# EAGLE library part TXS0104EPWR (library RoverWing-V1.5)
Bidirectional Voltage Level Translator, 4 Channel
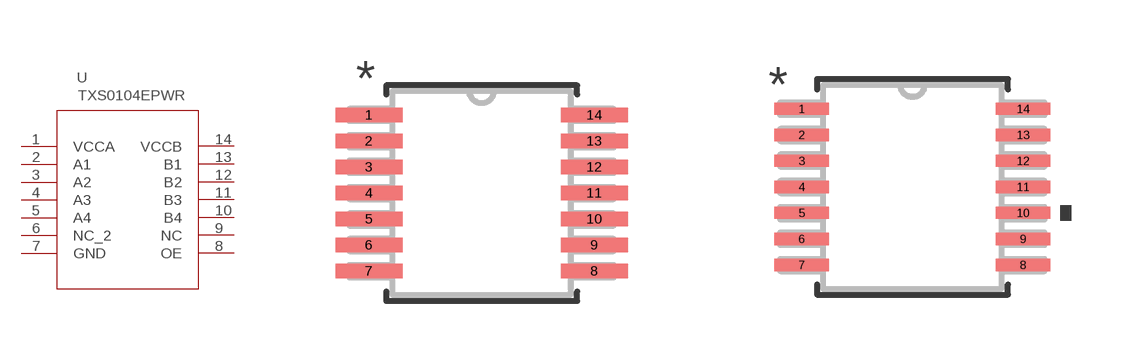
[diagram p10: symbol with the pads of PW14; footprints PW14, PW14-L]

Designator prefix U

## TXS0104EPWR (MANUFACTURER: Texas Instruments; PARTNO: TXS0104EPWR)  [PW14]
1  VCCA  pwr
2  A1
3  A2
4  A3
5  A4
6  NC_2  nc
7  GND  pwr
8  OE  out
9  NC  nc
10  B4
11  B3
12  B2
13  B1
14  VCCB  pwr

## TXS0104EPWRPW14-L (MANUFACTURER_PART_NUMBER: TXS0104EPWR; VENDOR: Texas Instruments)  [PW14-L]
Pads as for PW14

## TXS0104EPWRPW14-M (MANUFACTURER_PART_NUMBER: TXS0104EPWR; VENDOR: Texas Instruments)  [PW14-M]
Pads as for PW14

## Footprint PW14 (pad centres in mm)
smd 1.676 x 0.356: 1 -2.819,1.95; 2 -2.819,1.3; 3 -2.819,0.65; 4 -2.819,0; 5 -2.819,-0.65; 6 -2.819,-1.3; 7 -2.819,-1.95; 8 2.819,-1.95; 9 2.819,-1.3; 10 2.819,-0.65; 11 2.819,0; 12 2.819,0.65; 13 2.819,1.3; 14 2.819,1.95

## Footprint PW14-L (pad centres in mm)
smd 1.372 x 0.305: 1 -2.769,1.95; 2 -2.769,1.3; 3 -2.769,0.65; 4 -2.769,0; 5 -2.769,-0.65; 6 -2.769,-1.3; 7 -2.769,-1.95; 8 2.769,-1.95; 9 2.769,-1.3; 10 2.769,-0.65; 11 2.769,0; 12 2.769,0.65; 13 2.769,1.3; 14 2.769,1.95

## Footprint PW14-M (pad centres in mm)
smd 1.981 x 0.406: 1 -2.87,1.95; 2 -2.87,1.3; 3 -2.87,0.65; 4 -2.87,0; 5 -2.87,-0.65; 6 -2.87,-1.3; 7 -2.87,-1.95; 8 2.87,-1.95; 9 2.87,-1.3; 10 2.87,-0.65; 11 2.87,0; 12 2.87,0.65; 13 2.87,1.3; 14 2.87,1.95